# Altium footprint library AltiumDesigner.PcbLib: 3 footprints
Each footprint in its own frame and in the unit in brackets; x right, y up, seen from the top. Pads: shape width x height; smd on the part's side, far side on the other; paste and mask are expansions set on the pad; w line width, h text height; cw(c..) or ccw(c..) is an arc to the next point about the centre after c.
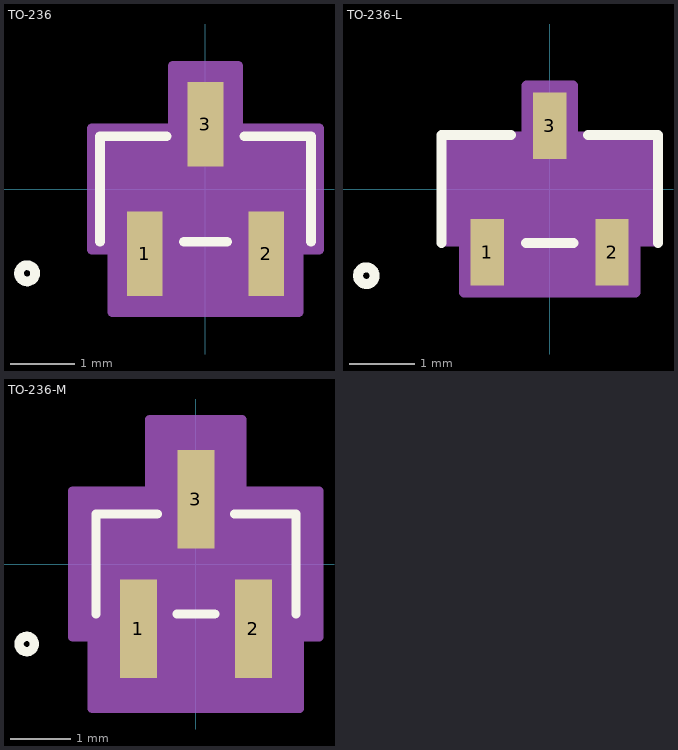
[diagram p0: the footprints below, top view; thin cyan lines are the x and y axes]

## TO-236 [mil]
pads (3):
  rect 22x52 smd paste+0 mask+0: 1(-37.4,-40) 2(37.4,-40) 3(0,40)
Top Overlay:
  circle w6: c-110,-52 r5
  lines w6: -65,-32.5 -65,32.5 -24.1,32.5 ; -13.3,-32.5 13.3,-32.5 ; 24.1,32.5 65,32.5 65,-32.5
Mechanical 13:
  circle w0: c-50,-17.5 r5
  lines w1: -60,-27.5 60,-27.5 60,27.5 -60,27.5 -60,-27.5 ; -47.4,-52 -47.4,-27.5 -27.4,-27.5 -27.4,-52 -47.4,-52 ; -10,27.5 10,27.5 10,52 -10,52 -10,27.5 ; 27.4,-52 27.4,-27.5 47.4,-27.5 47.4,-52 27.4,-52
Mechanical 15:
  region: -70,-37.5 -70,37.5 -20,37.5 -20,76 20,76 20,37.5 70,37.5 70,-37.5 57.4,-37.5 57.4,-76 -57.4,-76 -57.4,-37.5
  region: 60,-27.5 -60,-27.5 -60,27.5 60,27.5
  lines w6: -70,-37.5 -70,37.5 -20,37.5 -20,76 20,76 20,37.5 70,37.5 70,-37.5 57.4,-37.5 57.4,-76 -57.4,-76 -57.4,-37.5 -70,-37.5
3D body: height 10, standoff 0, extent 0,0 10,10

## TO-236-L [mil]
pads (3):
  rect 20x40 smd paste+0 mask+0: 1(-37.4,-38) 2(37.4,-38) 3(0,38)
Top Overlay:
  circle w6: c-110,-52 r5
  lines w6: -65,-32.5 -65,32.5 -23.1,32.5 ; -14.3,-32.5 14.3,-32.5 ; 23.1,32.5 65,32.5 65,-32.5
Mechanical 13:
  circle w0: c-50,-17.5 r5
  lines w1: -60,-27.5 60,-27.5 60,27.5 -60,27.5 -60,-27.5 ; -47.4,-52 -47.4,-27.5 -27.4,-27.5 -27.4,-52 -47.4,-52 ; -10,27.5 10,27.5 10,52 -10,52 -10,27.5 ; 27.4,-52 27.4,-27.5 47.4,-27.5 47.4,-52 27.4,-52
Mechanical 15:
  region: -64,-31.5 -64,31.5 -14,31.5 -14,62 14,62 14,31.5 64,31.5 64,-31.5 51.4,-31.5 51.4,-62 -51.4,-62 -51.4,-31.5
  region: 60,-27.5 -60,-27.5 -60,27.5 60,27.5
  lines w6: -64,-31.5 -64,31.5 -14,31.5 -14,62 14,62 14,31.5 64,31.5 64,-31.5 51.4,-31.5 51.4,-62 -51.4,-62 -51.4,-31.5 -64,-31.5
3D body: height 10, standoff 0, extent 0,0 10,10

## TO-236-M [mil]
pads (3):
  rect 24x64 smd paste+0 mask+0: 1(-37.4,-42) 2(37.4,-42) 3(0,42)
Top Overlay:
  circle w6: c-110,-52 r5
  lines w6: -65,-32.5 -65,32.5 -25.1,32.5 ; -12.3,-32.5 12.3,-32.5 ; 25.1,32.5 65,32.5 65,-32.5
Mechanical 13:
  circle w0: c-50,-17.5 r5
  lines w1: -60,-27.5 60,-27.5 60,27.5 -60,27.5 -60,-27.5 ; -47.4,-52 -47.4,-27.5 -27.4,-27.5 -27.4,-52 -47.4,-52 ; -10,27.5 10,27.5 10,52 -10,52 -10,27.5 ; 27.4,-52 27.4,-27.5 47.4,-27.5 47.4,-52 27.4,-52
Mechanical 15:
  region: -80,-47.5 -80,47.5 -30,47.5 -30,94 30,94 30,47.5 80,47.5 80,-47.5 67.4,-47.5 67.4,-94 -67.4,-94 -67.4,-47.5
  region: 60,-27.5 -60,-27.5 -60,27.5 60,27.5
  lines w6: -80,-47.5 -80,47.5 -30,47.5 -30,94 30,94 30,47.5 80,47.5 80,-47.5 67.4,-47.5 67.4,-94 -67.4,-94 -67.4,-47.5 -80,-47.5
3D body: height 10, standoff 0, extent 0,0 10,10